# Altium schematic symbol library GENERIC_TP_BOM.Schlib: 1 symbol
Pins are listed as number, name and electrical type; pins without a type are passive.

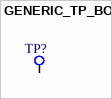
[diagram p0: symbol GENERIC_TP_BOM]

## GENERIC_TP_BOM
designator TP?  (value not drawn)
pins: 1 TP